# Altium footprint library STM8AF62A6UCX.PcbLib: 3 footprints
Each footprint in its own frame and in the unit in brackets; x right, y up, seen from the top. Pads: shape width x height; smd on the part's side, far side on the other; paste and mask are expansions set on the pad; w line width, h text height; cw(c..) or ccw(c..) is an arc to the next point about the centre after c.
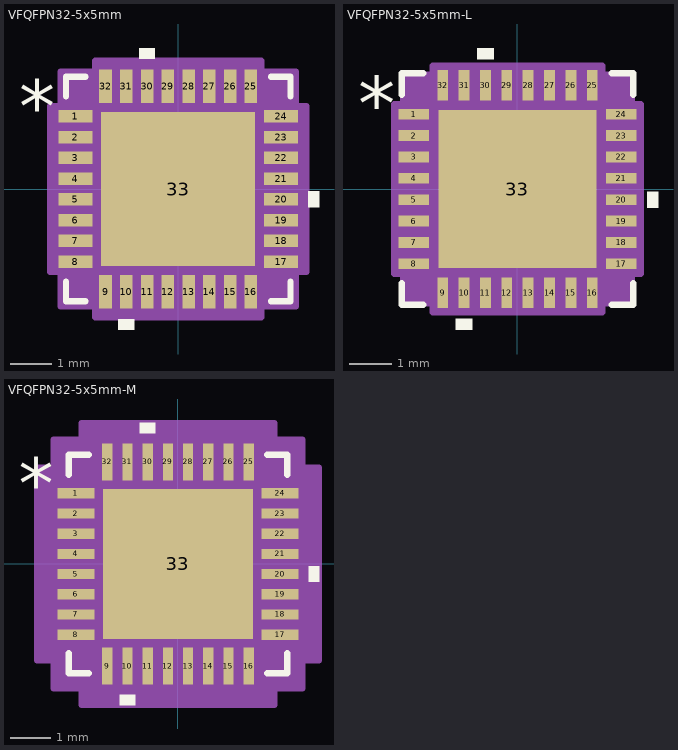
[diagram p0: the footprints below, top view; thin cyan lines are the x and y axes]

## VFQFPN32-5x5mm [mil]
pads (33):
  rect 32x12 smd paste+0 mask+0: 1(-97.5,68.9) 2(-97.5,49.21) 3(-97.5,29.53) 4(-97.5,9.84) 5(-97.5,-9.84) 6(-97.5,-29.53) 7(-97.5,-49.21) 8(-97.5,-68.9) 17(97.5,-68.9) 18(97.5,-49.21) 19(97.5,-29.53) 20(97.5,-9.84) 21(97.5,9.84) 22(97.5,29.53) 23(97.5,49.21) 24(97.5,68.9)
  rect 12x32 smd paste+0 mask+0: 9(-68.9,-97.5) 10(-49.21,-97.5) 11(-29.53,-97.5) 12(-9.84,-97.5) 13(9.84,-97.5) 14(29.53,-97.5) 15(49.21,-97.5) 16(68.9,-97.5) 25(68.9,97.5) 26(49.21,97.5) 27(29.53,97.5) 28(9.84,97.5) 29(-9.84,97.5) 30(-29.53,97.5) 31(-49.21,97.5) 32(-68.9,97.5)
  rect 146x146 smd paste-72.5 mask+0: 33(0,0)
Top Overlay:
  region: -41.71,-123.5 -56.71,-123.5 -56.71,-133.5 -41.71,-133.5
  region: 123.5,-2.34 133.5,-2.34 133.5,-17.34 123.5,-17.34
  region: -22.03,123.5 -37.03,123.5 -37.03,133.5 -22.03,133.5
  lines w6: -106.5,-88 -106.5,-106.5 -88,-106.5 ; -106.5,88 -106.5,106.5 -88,106.5 ; 88,-106.5 106.5,-106.5 106.5,-88 ; 88,106.5 106.5,106.5 106.5,88
  text "*" at -151,53.74 h50
Top Paste:
  region: -3.94,69.06 -69.06,69.06 -69.06,3.94 -3.94,3.94
  region: -3.94,-3.94 -69.06,-3.94 -69.06,-69.06 -3.94,-69.06
  region: 69.06,69.06 3.94,69.06 3.94,3.94 69.06,3.94
  region: 69.06,-3.94 3.94,-3.94 3.94,-69.06 69.06,-69.06
Mechanical 13:
  lines w1: -101.5,51.5 -51.5,101.5 ; -101.5,-101.5 101.5,-101.5 ; -101.5,-101.5 -101.5,101.5 ; -101.5,-101.5 -101.5,-101.5 ; -101.5,-74.9 -101.5,-62.9 ; -101.5,-74.9 -101.5,-62.9 ; -101.5,-74.9 -101.5,-74.9 ; -101.5,-62.9 -101.5,-62.9 ; -101.5,-55.21 -101.5,-43.21 ; -101.5,-55.21 -101.5,-43.21 ; -101.5,-55.21 -101.5,-55.21 ; -101.5,-43.21 -101.5,-43.21 ; -101.5,-35.53 -101.5,-23.53 ; -101.5,-35.53 -101.5,-23.53 ; -101.5,-35.53 -101.5,-35.53 ; -101.5,-23.53 -101.5,-23.53 ; -101.5,-15.84 -101.5,-3.84 ; -101.5,-15.84 -101.5,-3.84 ; -101.5,-15.84 -101.5,-15.84 ; -101.5,-3.84 -101.5,-3.84 ; -101.5,3.84 -101.5,15.84 ; -101.5,3.84 -101.5,15.84 ; -101.5,3.84 -101.5,3.84 ; -101.5,15.84 -101.5,15.84 ; -101.5,23.53 -101.5,35.53 ; -101.5,23.53 -101.5,35.53 ; -101.5,23.53 -101.5,23.53 ; -101.5,35.53 -101.5,35.53 ; -101.5,43.21 -101.5,55.21 ; -101.5,43.21 -101.5,55.21 ; -101.5,43.21 -101.5,43.21 ; -101.5,55.21 -101.5,55.21 ; -101.5,62.9 -101.5,74.9 ; -101.5,62.9 -101.5,74.9 ; -101.5,62.9 -101.5,62.9 ; -101.5,74.9 -101.5,74.9 ; -101.5,101.5 101.5,101.5 ; -101.5,101.5 -101.5,101.5 ; -74.9,-101.5 -62.9,-101.5 ; -74.9,-101.5 -74.9,-101.5 ; -74.9,-101.5 -62.9,-101.5 ; -74.9,101.5 -62.9,101.5 ; -74.9,101.5 -62.9,101.5 ; -74.9,101.5 -74.9,101.5 ; -62.9,-101.5 -62.9,-101.5 ; -62.9,101.5 -62.9,101.5 ; -55.21,-101.5 -43.21,-101.5 ; -55.21,-101.5 -55.21,-101.5 ; -55.21,-101.5 -43.21,-101.5 ; -55.21,101.5 -43.21,101.5 ; -55.21,101.5 -43.21,101.5 ; -55.21,101.5 -55.21,101.5 ; -43.21,-101.5 -43.21,-101.5 ; -43.21,101.5 -43.21,101.5 ; -35.53,-101.5 -23.53,-101.5 ; -35.53,-101.5 -35.53,-101.5 ; -35.53,-101.5 -23.53,-101.5 ; -35.53,101.5 -23.53,101.5 ; -35.53,101.5 -23.53,101.5 ; -35.53,101.5 -35.53,101.5 ; -23.53,-101.5 -23.53,-101.5 ; -23.53,101.5 -23.53,101.5 ; -15.84,-101.5 -3.84,-101.5 ; -15.84,-101.5 -15.84,-101.5 ; -15.84,-101.5 -3.84,-101.5 ; -15.84,101.5 -3.84,101.5 ; -15.84,101.5 -3.84,101.5 ; -15.84,101.5 -15.84,101.5 ; -3.84,-101.5 -3.84,-101.5 ; -3.84,101.5 -3.84,101.5 ; 3.84,-101.5 15.84,-101.5 ; 3.84,-101.5 3.84,-101.5 ; 3.84,-101.5 15.84,-101.5 ; 3.84,101.5 15.84,101.5 ; 3.84,101.5 15.84,101.5 ; 3.84,101.5 3.84,101.5 ; 15.84,-101.5 15.84,-101.5 ; 15.84,101.5 15.84,101.5 ; 23.53,-101.5 35.53,-101.5 ; 23.53,-101.5 23.53,-101.5 ; 23.53,-101.5 35.53,-101.5 ; 23.53,101.5 35.53,101.5 ; 23.53,101.5 35.53,101.5 ; 23.53,101.5 23.53,101.5 ; 35.53,-101.5 35.53,-101.5 ; 35.53,101.5 35.53,101.5 ; 43.21,-101.5 55.21,-101.5 ; 43.21,-101.5 43.21,-101.5 ; 43.21,-101.5 55.21,-101.5 ; 43.21,101.5 55.21,101.5 ; 43.21,101.5 55.21,101.5 ; 43.21,101.5 43.21,101.5 ; 55.21,-101.5 55.21,-101.5 ; 55.21,101.5 55.21,101.5 ; 62.9,-101.5 74.9,-101.5 ; 62.9,-101.5 62.9,-101.5 ; 62.9,-101.5 74.9,-101.5 ; 62.9,101.5 74.9,101.5 ; 62.9,101.5 74.9,101.5 ; 62.9,101.5 62.9,101.5 ; 74.9,-101.5 74.9,-101.5 ; 74.9,101.5 74.9,101.5 ; 101.5,-101.5 101.5,-101.5 ; 101.5,-101.5 101.5,101.5 ; 101.5,-74.9 101.5,-62.9 ; 101.5,-74.9 101.5,-74.9 ; 101.5,-74.9 101.5,-62.9 ; 101.5,-62.9 101.5,-62.9 ; 101.5,-55.21 101.5,-43.21 ; 101.5,-55.21 101.5,-55.21 ; 101.5,-55.21 101.5,-43.21 ; 101.5,-43.21 101.5,-43.21 ; 101.5,-35.53 101.5,-23.53 ; 101.5,-35.53 101.5,-35.53 ; 101.5,-35.53 101.5,-23.53 ; 101.5,-23.53 101.5,-23.53 ; 101.5,-15.84 101.5,-3.84 ; 101.5,-15.84 101.5,-15.84 ; 101.5,-15.84 101.5,-3.84 ; 101.5,-3.84 101.5,-3.84 ; 101.5,3.84 101.5,15.84 ; 101.5,3.84 101.5,3.84 ; 101.5,3.84 101.5,15.84 ; 101.5,15.84 101.5,15.84 ; 101.5,23.53 101.5,35.53 ; 101.5,23.53 101.5,23.53 ; 101.5,23.53 101.5,35.53 ; 101.5,35.53 101.5,35.53 ; 101.5,43.21 101.5,55.21 ; 101.5,43.21 101.5,43.21 ; 101.5,43.21 101.5,55.21 ; 101.5,55.21 101.5,55.21 ; 101.5,62.9 101.5,74.9 ; 101.5,62.9 101.5,62.9 ; 101.5,62.9 101.5,74.9 ; 101.5,74.9 101.5,74.9 ; 101.5,101.5 101.5,101.5
  text "*" at -94,53.74 h50
Mechanical 15:
  region: -78.74,-111.5 -111.5,-111.5 -111.5,-78.74 -121.5,-78.74 -121.5,78.74 -111.5,78.74 -111.5,111.5 -78.74,111.5 -78.74,121.5 78.74,121.5 78.74,111.5 111.5,111.5 111.5,78.74 121.5,78.74 121.5,-78.74 111.5,-78.74 111.5,-111.5 78.74,-111.5 78.74,-121.5 -78.74,-121.5
  lines w6: -121.5,-78.74 -111.5,-78.74 -111.5,-111.5 -78.74,-111.5 -78.74,-121.5 78.74,-121.5 78.74,-111.5 111.5,-111.5 111.5,-78.74 121.5,-78.74 121.5,78.74 111.5,78.74 111.5,111.5 78.74,111.5 78.74,121.5 -78.74,121.5 -78.74,111.5 -111.5,111.5 -111.5,78.74 -121.5,78.74 -121.5,-78.74
3D body "VFQFPN32-5x5mm.step": height 39.09, standoff 0, extent -101.5,-101.5 101.5,101.5

## VFQFPN32-5x5mm-L [mil]
pads (33):
  rect 28x10 smd paste+0 mask+0: 1(-95.5,68.9) 2(-95.5,49.21) 3(-95.5,29.53) 4(-95.5,9.84) 5(-95.5,-9.84) 6(-95.5,-29.53) 7(-95.5,-49.21) 8(-95.5,-68.9) 17(95.5,-68.9) 18(95.5,-49.21) 19(95.5,-29.53) 20(95.5,-9.84) 21(95.5,9.84) 22(95.5,29.53) 23(95.5,49.21) 24(95.5,68.9)
  rect 10x28 smd paste+0 mask+0: 9(-68.9,-95.5) 10(-49.21,-95.5) 11(-29.53,-95.5) 12(-9.84,-95.5) 13(9.84,-95.5) 14(29.53,-95.5) 15(49.21,-95.5) 16(68.9,-95.5) 25(68.9,95.5) 26(49.21,95.5) 27(29.53,95.5) 28(9.84,95.5) 29(-9.84,95.5) 30(-29.53,95.5) 31(-49.21,95.5) 32(-68.9,95.5)
  rect 146x146 smd paste-72.5 mask+0: 33(0,0)
Top Overlay:
  region: -41.71,-119.5 -56.71,-119.5 -56.71,-129.5 -41.71,-129.5
  region: 119.5,-2.34 129.5,-2.34 129.5,-17.34 119.5,-17.34
  region: -22.03,119.5 -37.03,119.5 -37.03,129.5 -22.03,129.5
  lines w6: -106.5,-87 -106.5,-106.5 -87,-106.5 ; -106.5,87 -106.5,106.5 -87,106.5 ; 87,-106.5 106.5,-106.5 106.5,-87 ; 87,106.5 106.5,106.5 106.5,87
  text "*" at -147,53.74 h50
Top Paste:
  region: -3.94,69.06 -69.06,69.06 -69.06,3.94 -3.94,3.94
  region: -3.94,-3.94 -69.06,-3.94 -69.06,-69.06 -3.94,-69.06
  region: 69.06,69.06 3.94,69.06 3.94,3.94 69.06,3.94
  region: 69.06,-3.94 3.94,-3.94 3.94,-69.06 69.06,-69.06
Mechanical 13:
  lines w1: -101.5,51.5 -51.5,101.5 ; -101.5,-101.5 101.5,-101.5 ; -101.5,-101.5 -101.5,101.5 ; -101.5,-101.5 -101.5,-101.5 ; -101.5,-74.9 -101.5,-62.9 ; -101.5,-74.9 -101.5,-62.9 ; -101.5,-74.9 -101.5,-74.9 ; -101.5,-62.9 -101.5,-62.9 ; -101.5,-55.21 -101.5,-43.21 ; -101.5,-55.21 -101.5,-43.21 ; -101.5,-55.21 -101.5,-55.21 ; -101.5,-43.21 -101.5,-43.21 ; -101.5,-35.53 -101.5,-23.53 ; -101.5,-35.53 -101.5,-23.53 ; -101.5,-35.53 -101.5,-35.53 ; -101.5,-23.53 -101.5,-23.53 ; -101.5,-15.84 -101.5,-3.84 ; -101.5,-15.84 -101.5,-3.84 ; -101.5,-15.84 -101.5,-15.84 ; -101.5,-3.84 -101.5,-3.84 ; -101.5,3.84 -101.5,15.84 ; -101.5,3.84 -101.5,15.84 ; -101.5,3.84 -101.5,3.84 ; -101.5,15.84 -101.5,15.84 ; -101.5,23.53 -101.5,35.53 ; -101.5,23.53 -101.5,35.53 ; -101.5,23.53 -101.5,23.53 ; -101.5,35.53 -101.5,35.53 ; -101.5,43.21 -101.5,55.21 ; -101.5,43.21 -101.5,55.21 ; -101.5,43.21 -101.5,43.21 ; -101.5,55.21 -101.5,55.21 ; -101.5,62.9 -101.5,74.9 ; -101.5,62.9 -101.5,74.9 ; -101.5,62.9 -101.5,62.9 ; -101.5,74.9 -101.5,74.9 ; -101.5,101.5 101.5,101.5 ; -101.5,101.5 -101.5,101.5 ; -74.9,-101.5 -62.9,-101.5 ; -74.9,-101.5 -74.9,-101.5 ; -74.9,-101.5 -62.9,-101.5 ; -74.9,101.5 -62.9,101.5 ; -74.9,101.5 -62.9,101.5 ; -74.9,101.5 -74.9,101.5 ; -62.9,-101.5 -62.9,-101.5 ; -62.9,101.5 -62.9,101.5 ; -55.21,-101.5 -43.21,-101.5 ; -55.21,-101.5 -55.21,-101.5 ; -55.21,-101.5 -43.21,-101.5 ; -55.21,101.5 -43.21,101.5 ; -55.21,101.5 -43.21,101.5 ; -55.21,101.5 -55.21,101.5 ; -43.21,-101.5 -43.21,-101.5 ; -43.21,101.5 -43.21,101.5 ; -35.53,-101.5 -23.53,-101.5 ; -35.53,-101.5 -35.53,-101.5 ; -35.53,-101.5 -23.53,-101.5 ; -35.53,101.5 -23.53,101.5 ; -35.53,101.5 -23.53,101.5 ; -35.53,101.5 -35.53,101.5 ; -23.53,-101.5 -23.53,-101.5 ; -23.53,101.5 -23.53,101.5 ; -15.84,-101.5 -3.84,-101.5 ; -15.84,-101.5 -15.84,-101.5 ; -15.84,-101.5 -3.84,-101.5 ; -15.84,101.5 -3.84,101.5 ; -15.84,101.5 -3.84,101.5 ; -15.84,101.5 -15.84,101.5 ; -3.84,-101.5 -3.84,-101.5 ; -3.84,101.5 -3.84,101.5 ; 3.84,-101.5 15.84,-101.5 ; 3.84,-101.5 3.84,-101.5 ; 3.84,-101.5 15.84,-101.5 ; 3.84,101.5 15.84,101.5 ; 3.84,101.5 15.84,101.5 ; 3.84,101.5 3.84,101.5 ; 15.84,-101.5 15.84,-101.5 ; 15.84,101.5 15.84,101.5 ; 23.53,-101.5 35.53,-101.5 ; 23.53,-101.5 23.53,-101.5 ; 23.53,-101.5 35.53,-101.5 ; 23.53,101.5 35.53,101.5 ; 23.53,101.5 35.53,101.5 ; 23.53,101.5 23.53,101.5 ; 35.53,-101.5 35.53,-101.5 ; 35.53,101.5 35.53,101.5 ; 43.21,-101.5 55.21,-101.5 ; 43.21,-101.5 43.21,-101.5 ; 43.21,-101.5 55.21,-101.5 ; 43.21,101.5 55.21,101.5 ; 43.21,101.5 55.21,101.5 ; 43.21,101.5 43.21,101.5 ; 55.21,-101.5 55.21,-101.5 ; 55.21,101.5 55.21,101.5 ; 62.9,-101.5 74.9,-101.5 ; 62.9,-101.5 62.9,-101.5 ; 62.9,-101.5 74.9,-101.5 ; 62.9,101.5 74.9,101.5 ; 62.9,101.5 74.9,101.5 ; 62.9,101.5 62.9,101.5 ; 74.9,-101.5 74.9,-101.5 ; 74.9,101.5 74.9,101.5 ; 101.5,-101.5 101.5,-101.5 ; 101.5,-101.5 101.5,101.5 ; 101.5,-74.9 101.5,-62.9 ; 101.5,-74.9 101.5,-74.9 ; 101.5,-74.9 101.5,-62.9 ; 101.5,-62.9 101.5,-62.9 ; 101.5,-55.21 101.5,-43.21 ; 101.5,-55.21 101.5,-55.21 ; 101.5,-55.21 101.5,-43.21 ; 101.5,-43.21 101.5,-43.21 ; 101.5,-35.53 101.5,-23.53 ; 101.5,-35.53 101.5,-35.53 ; 101.5,-35.53 101.5,-23.53 ; 101.5,-23.53 101.5,-23.53 ; 101.5,-15.84 101.5,-3.84 ; 101.5,-15.84 101.5,-15.84 ; 101.5,-15.84 101.5,-3.84 ; 101.5,-3.84 101.5,-3.84 ; 101.5,3.84 101.5,15.84 ; 101.5,3.84 101.5,3.84 ; 101.5,3.84 101.5,15.84 ; 101.5,15.84 101.5,15.84 ; 101.5,23.53 101.5,35.53 ; 101.5,23.53 101.5,23.53 ; 101.5,23.53 101.5,35.53 ; 101.5,35.53 101.5,35.53 ; 101.5,43.21 101.5,55.21 ; 101.5,43.21 101.5,43.21 ; 101.5,43.21 101.5,55.21 ; 101.5,55.21 101.5,55.21 ; 101.5,62.9 101.5,74.9 ; 101.5,62.9 101.5,62.9 ; 101.5,62.9 101.5,74.9 ; 101.5,74.9 101.5,74.9 ; 101.5,101.5 101.5,101.5
  text "*" at -94,53.74 h50
Mechanical 15:
  region: -77.9,-105.5 -105.5,-105.5 -105.5,-77.9 -113.5,-77.9 -113.5,77.9 -105.5,77.9 -105.5,105.5 -77.9,105.5 -77.9,113.5 77.9,113.5 77.9,105.5 105.5,105.5 105.5,77.9 113.5,77.9 113.5,-77.9 105.5,-77.9 105.5,-105.5 77.9,-105.5 77.9,-113.5 -77.9,-113.5
  lines w6: -113.5,-77.9 -105.5,-77.9 -105.5,-105.5 -77.9,-105.5 -77.9,-113.5 77.9,-113.5 77.9,-105.5 105.5,-105.5 105.5,-77.9 113.5,-77.9 113.5,77.9 105.5,77.9 105.5,105.5 77.9,105.5 77.9,113.5 -77.9,113.5 -77.9,105.5 -105.5,105.5 -105.5,77.9 -113.5,77.9 -113.5,-77.9
3D body "VFQFPN32-5x5mm.step": height 39.09, standoff 0, extent -101.5,-101.5 101.5,101.5

## VFQFPN32-5x5mm-M [mil]
pads (33):
  rect 36x10 smd paste+0 mask+0: 1(-99.5,68.9) 2(-99.5,49.21) 3(-99.5,29.53) 4(-99.5,9.84) 5(-99.5,-9.84) 6(-99.5,-29.53) 7(-99.5,-49.21) 8(-99.5,-68.9) 17(99.5,-68.9) 18(99.5,-49.21) 19(99.5,-29.53) 20(99.5,-9.84) 21(99.5,9.84) 22(99.5,29.53) 23(99.5,49.21) 24(99.5,68.9)
  rect 10x36 smd paste+0 mask+0: 9(-68.9,-99.5) 10(-49.21,-99.5) 11(-29.53,-99.5) 12(-9.84,-99.5) 13(9.84,-99.5) 14(29.53,-99.5) 15(49.21,-99.5) 16(68.9,-99.5) 25(68.9,99.5) 26(49.21,99.5) 27(29.53,99.5) 28(9.84,99.5) 29(-9.84,99.5) 30(-29.53,99.5) 31(-49.21,99.5) 32(-68.9,99.5)
  rect 146x146 smd paste-72.5 mask+0: 33(0,0)
Top Overlay:
  region: -41.71,-127.5 -56.71,-127.5 -56.71,-137.5 -41.71,-137.5
  region: 127.5,-2.34 137.5,-2.34 137.5,-17.34 127.5,-17.34
  region: -22.03,127.5 -37.03,127.5 -37.03,137.5 -22.03,137.5
  lines w6: -106.5,-87 -106.5,-106.5 -87,-106.5 ; -106.5,87 -106.5,106.5 -87,106.5 ; 87,-106.5 106.5,-106.5 106.5,-87 ; 87,106.5 106.5,106.5 106.5,87
  text "*" at -155,53.74 h50
Top Paste:
  region: -3.94,69.06 -69.06,69.06 -69.06,3.94 -3.94,3.94
  region: -3.94,-3.94 -69.06,-3.94 -69.06,-69.06 -3.94,-69.06
  region: 69.06,69.06 3.94,69.06 3.94,3.94 69.06,3.94
  region: 69.06,-3.94 3.94,-3.94 3.94,-69.06 69.06,-69.06
Mechanical 13:
  lines w1: -101.5,51.5 -51.5,101.5 ; -101.5,-101.5 101.5,-101.5 ; -101.5,-101.5 -101.5,101.5 ; -101.5,-101.5 -101.5,-101.5 ; -101.5,-74.9 -101.5,-62.9 ; -101.5,-74.9 -101.5,-62.9 ; -101.5,-74.9 -101.5,-74.9 ; -101.5,-62.9 -101.5,-62.9 ; -101.5,-55.21 -101.5,-43.21 ; -101.5,-55.21 -101.5,-43.21 ; -101.5,-55.21 -101.5,-55.21 ; -101.5,-43.21 -101.5,-43.21 ; -101.5,-35.53 -101.5,-23.53 ; -101.5,-35.53 -101.5,-23.53 ; -101.5,-35.53 -101.5,-35.53 ; -101.5,-23.53 -101.5,-23.53 ; -101.5,-15.84 -101.5,-3.84 ; -101.5,-15.84 -101.5,-3.84 ; -101.5,-15.84 -101.5,-15.84 ; -101.5,-3.84 -101.5,-3.84 ; -101.5,3.84 -101.5,15.84 ; -101.5,3.84 -101.5,15.84 ; -101.5,3.84 -101.5,3.84 ; -101.5,15.84 -101.5,15.84 ; -101.5,23.53 -101.5,35.53 ; -101.5,23.53 -101.5,35.53 ; -101.5,23.53 -101.5,23.53 ; -101.5,35.53 -101.5,35.53 ; -101.5,43.21 -101.5,55.21 ; -101.5,43.21 -101.5,55.21 ; -101.5,43.21 -101.5,43.21 ; -101.5,55.21 -101.5,55.21 ; -101.5,62.9 -101.5,74.9 ; -101.5,62.9 -101.5,74.9 ; -101.5,62.9 -101.5,62.9 ; -101.5,74.9 -101.5,74.9 ; -101.5,101.5 101.5,101.5 ; -101.5,101.5 -101.5,101.5 ; -74.9,-101.5 -62.9,-101.5 ; -74.9,-101.5 -74.9,-101.5 ; -74.9,-101.5 -62.9,-101.5 ; -74.9,101.5 -62.9,101.5 ; -74.9,101.5 -62.9,101.5 ; -74.9,101.5 -74.9,101.5 ; -62.9,-101.5 -62.9,-101.5 ; -62.9,101.5 -62.9,101.5 ; -55.21,-101.5 -43.21,-101.5 ; -55.21,-101.5 -55.21,-101.5 ; -55.21,-101.5 -43.21,-101.5 ; -55.21,101.5 -43.21,101.5 ; -55.21,101.5 -43.21,101.5 ; -55.21,101.5 -55.21,101.5 ; -43.21,-101.5 -43.21,-101.5 ; -43.21,101.5 -43.21,101.5 ; -35.53,-101.5 -23.53,-101.5 ; -35.53,-101.5 -35.53,-101.5 ; -35.53,-101.5 -23.53,-101.5 ; -35.53,101.5 -23.53,101.5 ; -35.53,101.5 -23.53,101.5 ; -35.53,101.5 -35.53,101.5 ; -23.53,-101.5 -23.53,-101.5 ; -23.53,101.5 -23.53,101.5 ; -15.84,-101.5 -3.84,-101.5 ; -15.84,-101.5 -15.84,-101.5 ; -15.84,-101.5 -3.84,-101.5 ; -15.84,101.5 -3.84,101.5 ; -15.84,101.5 -3.84,101.5 ; -15.84,101.5 -15.84,101.5 ; -3.84,-101.5 -3.84,-101.5 ; -3.84,101.5 -3.84,101.5 ; 3.84,-101.5 15.84,-101.5 ; 3.84,-101.5 3.84,-101.5 ; 3.84,-101.5 15.84,-101.5 ; 3.84,101.5 15.84,101.5 ; 3.84,101.5 15.84,101.5 ; 3.84,101.5 3.84,101.5 ; 15.84,-101.5 15.84,-101.5 ; 15.84,101.5 15.84,101.5 ; 23.53,-101.5 35.53,-101.5 ; 23.53,-101.5 23.53,-101.5 ; 23.53,-101.5 35.53,-101.5 ; 23.53,101.5 35.53,101.5 ; 23.53,101.5 35.53,101.5 ; 23.53,101.5 23.53,101.5 ; 35.53,-101.5 35.53,-101.5 ; 35.53,101.5 35.53,101.5 ; 43.21,-101.5 55.21,-101.5 ; 43.21,-101.5 43.21,-101.5 ; 43.21,-101.5 55.21,-101.5 ; 43.21,101.5 55.21,101.5 ; 43.21,101.5 55.21,101.5 ; 43.21,101.5 43.21,101.5 ; 55.21,-101.5 55.21,-101.5 ; 55.21,101.5 55.21,101.5 ; 62.9,-101.5 74.9,-101.5 ; 62.9,-101.5 62.9,-101.5 ; 62.9,-101.5 74.9,-101.5 ; 62.9,101.5 74.9,101.5 ; 62.9,101.5 74.9,101.5 ; 62.9,101.5 62.9,101.5 ; 74.9,-101.5 74.9,-101.5 ; 74.9,101.5 74.9,101.5 ; 101.5,-101.5 101.5,-101.5 ; 101.5,-101.5 101.5,101.5 ; 101.5,-74.9 101.5,-62.9 ; 101.5,-74.9 101.5,-74.9 ; 101.5,-74.9 101.5,-62.9 ; 101.5,-62.9 101.5,-62.9 ; 101.5,-55.21 101.5,-43.21 ; 101.5,-55.21 101.5,-55.21 ; 101.5,-55.21 101.5,-43.21 ; 101.5,-43.21 101.5,-43.21 ; 101.5,-35.53 101.5,-23.53 ; 101.5,-35.53 101.5,-35.53 ; 101.5,-35.53 101.5,-23.53 ; 101.5,-23.53 101.5,-23.53 ; 101.5,-15.84 101.5,-3.84 ; 101.5,-15.84 101.5,-15.84 ; 101.5,-15.84 101.5,-3.84 ; 101.5,-3.84 101.5,-3.84 ; 101.5,3.84 101.5,15.84 ; 101.5,3.84 101.5,3.84 ; 101.5,3.84 101.5,15.84 ; 101.5,15.84 101.5,15.84 ; 101.5,23.53 101.5,35.53 ; 101.5,23.53 101.5,23.53 ; 101.5,23.53 101.5,35.53 ; 101.5,35.53 101.5,35.53 ; 101.5,43.21 101.5,55.21 ; 101.5,43.21 101.5,43.21 ; 101.5,43.21 101.5,55.21 ; 101.5,55.21 101.5,55.21 ; 101.5,62.9 101.5,74.9 ; 101.5,62.9 101.5,62.9 ; 101.5,62.9 101.5,74.9 ; 101.5,74.9 101.5,74.9 ; 101.5,101.5 101.5,101.5
  text "*" at -94,53.74 h50
Mechanical 15:
  region: -93.9,-121.5 -121.5,-121.5 -121.5,-93.9 -137.5,-93.9 -137.5,93.9 -121.5,93.9 -121.5,121.5 -93.9,121.5 -93.9,137.5 93.9,137.5 93.9,121.5 121.5,121.5 121.5,93.9 137.5,93.9 137.5,-93.9 121.5,-93.9 121.5,-121.5 93.9,-121.5 93.9,-137.5 -93.9,-137.5
  lines w6: -137.5,-93.9 -121.5,-93.9 -121.5,-121.5 -93.9,-121.5 -93.9,-137.5 93.9,-137.5 93.9,-121.5 121.5,-121.5 121.5,-93.9 137.5,-93.9 137.5,93.9 121.5,93.9 121.5,121.5 93.9,121.5 93.9,137.5 -93.9,137.5 -93.9,121.5 -121.5,121.5 -121.5,93.9 -137.5,93.9 -137.5,-93.9
3D body "VFQFPN32-5x5mm.step": height 39.09, standoff 0, extent -101.5,-101.5 101.5,101.5